# Altium footprint library 18pin_holes.PcbLib: 1 footprints
Each footprint in its own frame and in the unit in brackets; x right, y up, seen from the top. Pads: shape width x height; smd on the part's side, far side on the other; paste and mask are expansions set on the pad; w line width, h text height; cw(c..) or ccw(c..) is an arc to the next point about the centre after c.
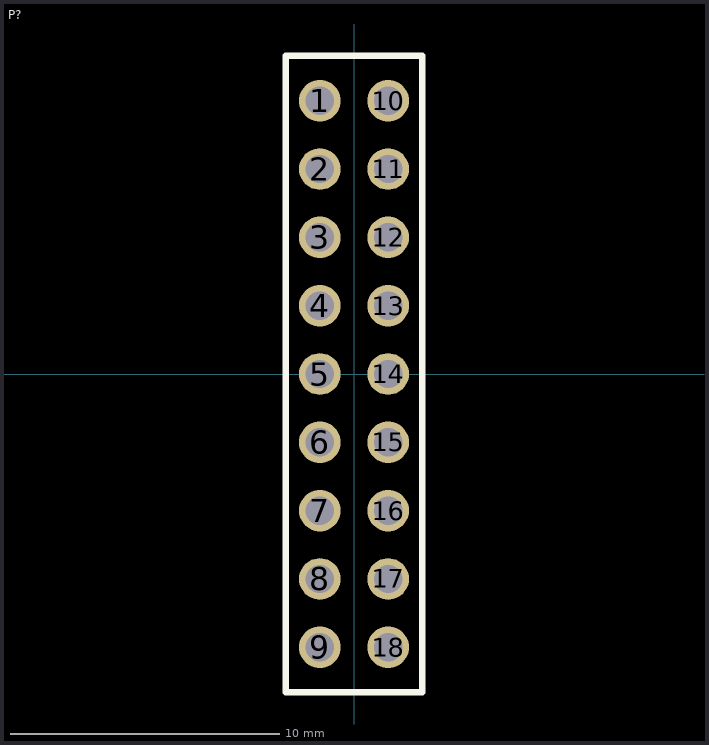
[diagram p0: the footprint, top view; thin cyan lines are the x and y axes]

## P? [mm] "PicoBlade connector RA 12 way"
pads (18):
  round 1.55 hole 1.05: 1(-1.27,10.16) 2(-1.27,7.62) 3(-1.27,5.08) 4(-1.27,2.54) 5(-1.27,0) 6(-1.27,-2.54) 7(-1.27,-5.08) 8(-1.27,-7.62) 9(-1.27,-10.16) 10(1.27,10.16) 11(1.27,7.62) 12(1.27,5.08) 13(1.27,2.54) 14(1.27,0) 15(1.27,-2.54) 16(1.27,-5.08) 17(1.27,-7.62) 18(1.27,-10.16)
Top Overlay:
  lines w0.254: -2.54,-11.83 -2.54,11.83 2.54,11.83 2.54,-11.83 -2.54,-11.83